# Altium schematic symbol library TSW-103-19-S-S.SchLib: 1 symbol
Pins are listed as number, name and electrical type; pins without a type are passive.

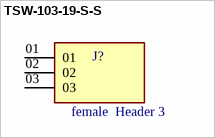
[diagram p0: symbol TSW-103-19-S-S]

## TSW-103-19-S-S
designator J?  value female  Header 3  (hidden comment: *)
MP: TSW-103-19-S-S; Package: None; Price: None; Availability: Unavailable
footprint SAMTEC_TSW-103-19-S-S
pins: 01, 02, 03